# Altium footprint library BLDC_Motor_PcbLib.PcbLib: 12 footprints
Each footprint in its own frame and in the unit in brackets; x right, y up, seen from the top. Pads: shape width x height; smd on the part's side, far side on the other; paste and mask are expansions set on the pad; w line width, h text height; cw(c..) or ccw(c..) is an arc to the next point about the centre after c.
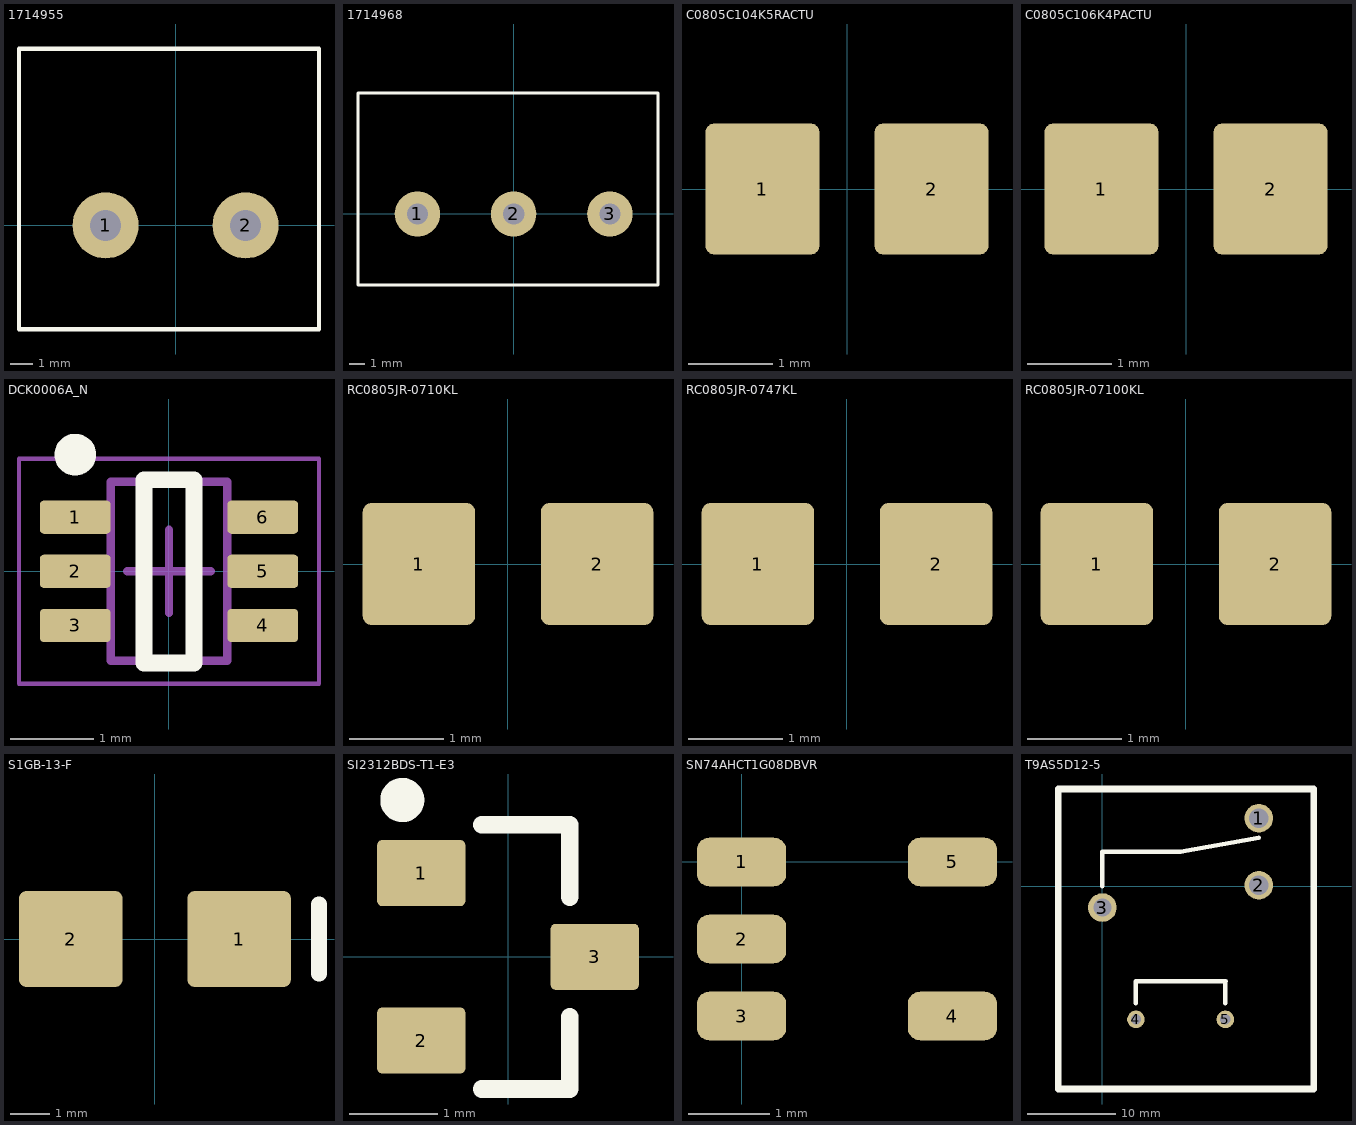
[diagram p0: the footprints below, top view; thin cyan lines are the x and y axes]

## 1714955 [mm]
pads (2):
  round 3 hole 1.4: 1(-3.175,0) 2(3.175,0)
Top Overlay:
  lines w0.2: -7.1,-4.7 -7.1,8 6.5,8 6.5,-4.7 -7.1,-4.7
3D body "796740-2.stp": height 21.51, standoff -4.99, extent -6.95,-4.6 6.35,7.9

## 1714968 [mm]
pads (3):
  round 3 hole 1.4 mask+0.102: 1(-6.35,0) 2(0,0) 3(6.35,0)
Top Overlay:
  lines w0.2: -10.275,-4.7 9.525,-4.7 9.525,8 -10.275,8 -10.275,-4.7
3D body "796740-3.stp": height 21.51, standoff -4.99, extent -10.125,-4.6 9.525,7.9

## C0805C104K5RACTU [mm]
pads (2):
  rrect15% 1.35x1.55 smd: 1(-1,0) 2(1,0)
3D body "CAPC2012X88N EIA 0805.step": height 0.89, standoff 0.01, extent -1,-0.6 1,0.6

## C0805C106K4PACTU [mm]
pads (2):
  rrect15% 1.35x1.55 smd: 1(-1,0) 2(1,0)
3D body "CAPC2012X140N EIA 0805.step": height 1.21, standoff 0.01, extent -1,-0.7 1,0.7

## DCK0006A_N [mm] "SOT23, 6-Leads, Body 2.15x1.4mm, Pitch 0.65mm, IPC Medium Density"
height 1.1
pads (6):
  rrect25% 0.85x0.4 smd: 1(-1.125,0.65) 2(-1.125,0) 3(-1.125,-0.65) 4(1.125,-0.65) 5(1.125,0) 6(1.125,0.65)
Top Overlay:
  circle w0.25: c-1.125,1.4 r0.125
  lines w0.2: -0.3,-1.1 -0.3,1.1 0.3,1.1 0.3,-1.1 -0.3,-1.1
Mechanical 1:
  text ".Designator" at -0.635,-0.127 h0.3
Mechanical 13:
  lines w0.1: -0.7,-1.075 0.7,-1.075 0.7,1.075 -0.7,1.075 -0.7,-1.075
Mechanical 15:
  lines w0.05: -1.8,-1.35 1.8,-1.35 1.8,1.35 -1.8,1.35 -1.8,-1.35
  lines w0.1: -0.5,0 0.5,0 ; 0,-0.5 0,0.5
3D body "DCK0006AakaMAA06.stp": height 0.94, standoff -0.01, extent -1.14,-1 1.14,1

## RC0805JR-0710KL [mm]
pads (2):
  rrect15% 1.2x1.3 smd: 1(-0.95,0) 2(0.95,0)
3D body "RC0805JR-0710KL.STEP": height 0.61, standoff 0.01, extent -1,-0.625 1,0.625

## RC0805JR-0747KL [mm]
pads (2):
  rrect15% 1.2x1.3 smd: 1(-0.95,0) 2(0.95,0)
3D body "RC0805JR-0710KL.STEP": height 0.61, standoff 0.01, extent -1,-0.625 1,0.625

## RC0805JR-07100KL [mm]
pads (2):
  rrect15% 1.2x1.3 smd: 1(-0.95,0) 2(0.95,0)
3D body "RC0805JR-0710KL.STEP": height 0.61, standoff 0.01, extent -1,-0.625 1,0.625

## S1GB-13-F [mm]
height 2.5
pads (2):
  rrect15% 2.65x2.45 smd: 1(2.15,0) 2(-2.15,0)
Top Overlay:
  lines w0.4: 4.191,-0.889 4.191,0.889
3D body "DIOM4336X25N.step": height 2.5, standoff 0, extent -2.505,-1.97 2.505,1.97

## SI2312BDS-T1-E3 [mm]
height 1.12
pads (3):
  rrect15% 1x0.75 smd: 1(-0.984,0.95) 2(-0.984,-0.95) 3(0.984,0)
Top Overlay:
  circle w0.25: c-1.2,1.78 r0.125
  lines w0.2: -0.3,-1.5 0.7,-1.5 0.7,-0.679 ; -0.3,1.5 0.7,1.5 0.7,0.68
3D body "SOT95P237X112-3N_NMOSFET.step": height 1.12, standoff 0, extent -1.32,-1.52 1.32,1.52

## SN74AHCT1G08DBVR [mm]
pads (5):
  rrect50% 1.1x0.6 smd: 1(0,0) 2(0,-0.95) 3(0,-1.9) 4(2.6,-1.9) 5(2.6,0)
3D body "SN74AHCT1G08DBVR.STEP": height 1.45, standoff 0, extent -0.075,-2.4 2.725,0.5

## T9AS5D12-5 [mm]
pads (5):
  round 3.25 hole 2.19: 1(17.78,7.72) 2(17.78,0.1)
  round 3.25 hole 2.06: 3(0,-2.44)
  round 2 hole 1.17: 4(3.81,-15.14) 5(13.97,-15.14)
Top Overlay:
  lines w0.5: -0.02,3.9 8.88,3.9 17.78,5.5 ; 0,0 0,3.88 ; 3.78,-13.335 3.78,-10.84 ; 3.8,-10.8 14,-10.8 ; 13.97,-13.335 13.97,-10.85
  lines w0.75: -5,-23.061 24,-23.061 24,11.034 -5,11.034 -5,-23.061
Bottom Overlay:
  lines w0.5: 3.78,-12.67 3.81,-12.7
3D body "c-3-1393210-9-j-3d.stp": height 20.05, standoff -3.7, extent -4.232,-22.219 23.2,10.3